# EAGLE library part RELAY_4052 (library HOME_Automation123)
RELAY 2 x switch, Finder
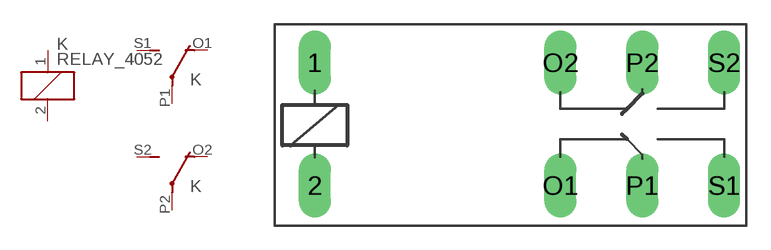
[diagram p4: symbol with the pads of RELAY_F4052; footprint RELAY_F4052]

Designator prefix K; gates 1=RELAY_K 2=RELAY_U 3=RELAY_U

## RELAY_4052 (OC_FARNELL: unknown; OC_NEWARK: unknown)  [RELAY_F4052]
1  1:1  pas
2  1:2  pas
O1  2:O  pas
O2  3:O  pas
P1  2:P  pas
P2  3:P  pas
S1  2:S  pas
S2  3:S  pas

## Footprint RELAY_F4052 (pad centres in mm)
RELAY 2 x switch, Finder
drill 1.321 long: 1 -3.81,3.81; 2 -3.81,-3.81; O1 11.43,-3.81; O2 11.43,3.81; P1 16.51,-3.81; P2 16.51,3.81; S1 21.59,-3.81; S2 21.59,3.81